# EAGLE library part STEF01 (library Bauteile)
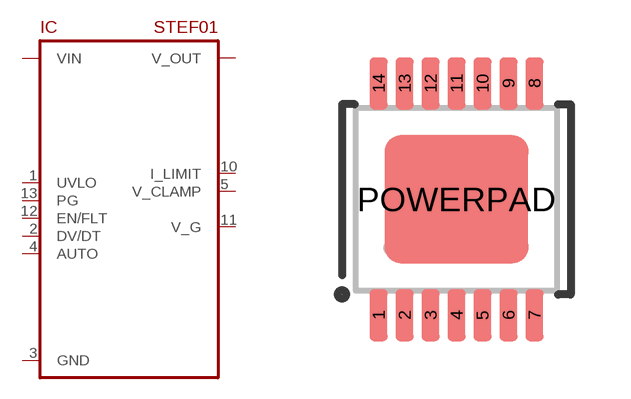
[diagram p171: symbol with the pads of HTSSOP14; footprint HTSSOP14]

Designator prefix IC

## STEF01  [HTSSOP14]
1  UVLO
2  DV/DT
3  GND
4  AUTO
5  V_CLAMP
6  V_OUT
7  V_OUT
8  V_OUT
9  V_OUT
10  I_LIMIT
11  V_G
12  EN/FLT
13  PG
14  VIN
POWERPAD  VIN

## Footprint HTSSOP14 (pad centres in mm)
smd 0.45 x 1.3: 1 -1.95,-2.9; 2 -1.3,-2.9; 3 -0.65,-2.9; 4 0,-2.9; 5 0.65,-2.9; 6 1.3,-2.9; 7 1.95,-2.9; 8 1.95,2.9; 9 1.3,2.9; 10 0.65,2.9; 11 0,2.9; 12 -0.65,2.9; 13 -1.3,2.9; 14 -1.95,2.9
smd 3.6 x 3.2: POWERPAD 0,0